# EAGLE library part 14A-20-512 (library ds_trafo)
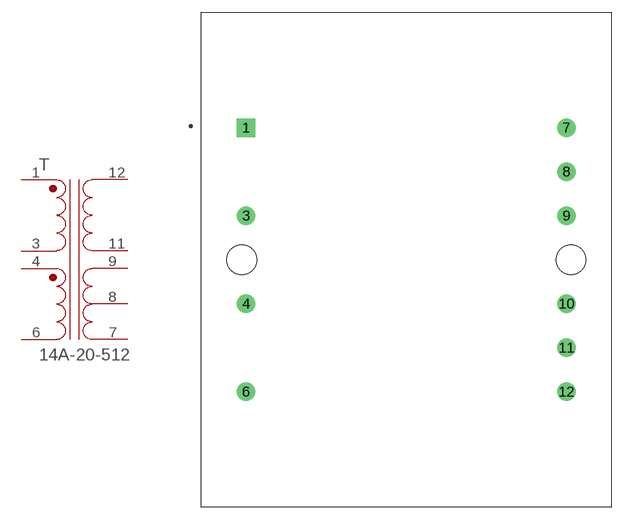
[diagram p2: symbol with the pads of XFMR_14A-20-512; footprint XFMR_14A-20-512]

Designator prefix T

## 14A-20-512 (MANUFACTURER: Signal; MAXIMUM_PACKAGE_HEIGHT: 41.3mm; PARTREV: 12.19; STANDARD: Manufacturer Recommendations)  [XFMR_14A-20-512]
1  1  pas
3  3  pas
4  4  pas
6  6  pas
7  7  pas
8  8  pas
9  9  pas
11  11  pas
12  12  pas

## Footprint XFMR_14A-20-512 (pad centres in mm)
drill 1.44 square: 1 -18.55,15.3
drill 1.44: 3 -18.55,5.1; 4 -18.55,-5.1; 6 -18.55,-15.3; 7 18.55,15.3; 8 18.55,10.2; 9 18.55,5.1; 10 18.55,-5.1; 11 18.55,-10.2; 12 18.55,-15.3
hole 3.43 at -19.05,0
hole 3.43 at 19.05,0